# EAGLE library part TC962COE (library TC962COE)
TC962COE, Charge Pump Inverting, -18 to -3V, 16-Pin, SOIC W Source: Datasheet <http://uk.rs-online.com/web/p/products/6696313P>
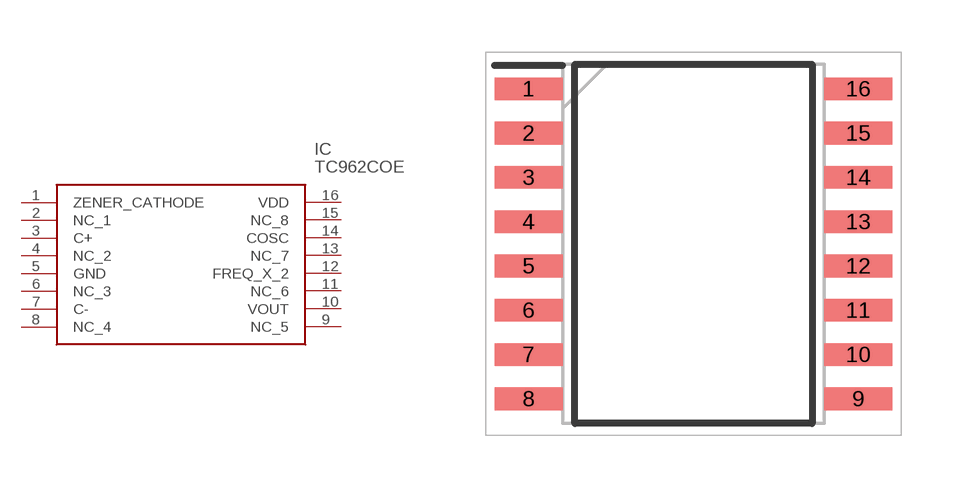
[diagram p0: symbol with the pads of SOIC127P1038X264-16N; footprint SOIC127P1038X264-16N]

Designator prefix IC

## TC962COE (Allied_Number: 70414391; Description: TC962COE, Charge Pump Inverting, -18 to -3V, 16-Pin, SOIC W; Height: 2.64mm; Manufacturer_Name: Microchip; Manufacturer_Part_Number: TC962COE; RS_Part_Number: 6696313P; RS_Price-Stock: http://uk.rs-online.com/web/p/products/6696313P)  [SOIC127P1038X264-16N]
1  ZENER_CATHODE
2  NC_1
3  C+
4  NC_2
5  GND
6  NC_3
7  C-
8  NC_4
9  NC_5
10  VOUT
11  NC_6
12  FREQ_X_2
13  NC_7
14  COSC
15  NC_8
16  VDD

## Footprint SOIC127P1038X264-16N (pad centres in mm)
TC962COE
smd 1.952 x 0.65: 1 -4.724,4.445; 2 -4.724,3.175; 3 -4.724,1.905; 4 -4.724,0.635; 5 -4.724,-0.635; 6 -4.724,-1.905; 7 -4.724,-3.175; 8 -4.724,-4.445; 9 4.724,-4.445; 10 4.724,-3.175; 11 4.724,-1.905; 12 4.724,-0.635; 13 4.724,0.635; 14 4.724,1.905; 15 4.724,3.175; 16 4.724,4.445